# EAGLE library part RPI_RASPBERRY-PI_REV1 (library Shield)
Raspberry Pi Board <http://www.raspberrypi.org/> Jacques Lagnel V1.0 (beta) 2012 Mateusz Bawaj V1.1 (beta) 2012 Board dimension: Forum 3D model <http://www.raspberrypi.org/forum/general-discussion/mechanical-profile-3d-models?value=3d%20model&type=1&include=1&search=1&ret=all> The GPIO Connector (P1): http://elinux.org/RPi_Low-level_peripherals
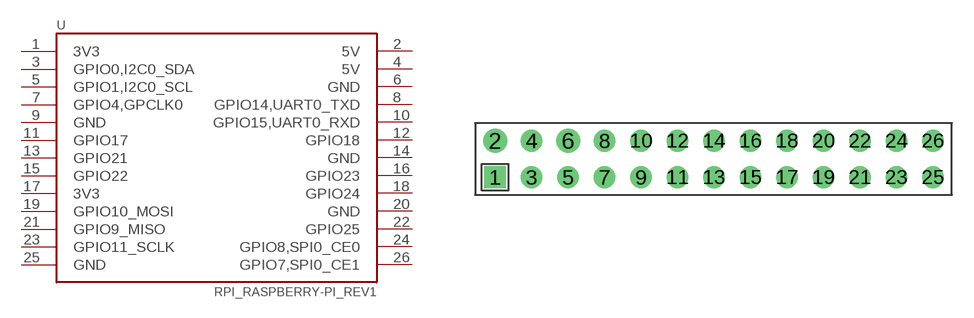
[diagram p6: symbol with the pads of RPI_RASPBERRY-PI_REV1; footprint RPI_RASPBERRY-PI_REV1]

Designator prefix -

## RPI_RASPBERRY-PI_REV1  [RPI_RASPBERRY-PI_REV1]
1  3V3
2  5V
3  GPIO0,I2C0_SDA
4  5V
5  GPIO1,I2C0_SCL
6  GND
7  GPIO4,GPCLK0
8  GPIO14,UART0_TXD
9  GND
10  GPIO15,UART0_RXD
11  GPIO17
12  GPIO18
13  GPIO21
14  GND
15  GPIO22
16  GPIO23
17  3V3
18  GPIO24
19  GPIO10_MOSI
20  GND
21  GPIO9_MISO
22  GPIO25
23  GPIO11_SCLK
24  GPIO8,SPI0_CE0
25  GND
26  GPIO7,SPI0_CE1

## Footprint RPI_RASPBERRY-PI_REV1 (pad centres in mm)
drill 1 square: 1 -26.91,2.69
drill 1 pad 1.676: 2 -26.91,5.23; 6 -21.83,5.23
drill 1: 3 -24.37,2.69; 4 -24.37,5.23; 5 -21.83,2.69; 7 -19.29,2.69; 8 -19.29,5.23; 9 -16.75,2.69; 10 -16.75,5.23; 11 -14.21,2.69; 12 -14.21,5.23; 13 -11.67,2.69; 14 -11.67,5.23; 15 -9.13,2.69; 16 -9.13,5.23; 17 -6.59,2.69; 18 -6.59,5.23; 19 -4.05,2.69; 20 -4.05,5.23; 21 -1.51,2.69; 22 -1.51,5.23; 23 1.03,2.69; 24 1.03,5.23; 25 3.57,2.69; 26 3.57,5.23